# Altium footprint library USB-A-S-F-W-SM2.PcbLib: 1 footprints
Each footprint in its own frame and in the unit in brackets; x right, y up, seen from the top. Pads: shape width x height; smd on the part's side, far side on the other; paste and mask are expansions set on the pad; w line width, h text height; cw(c..) or ccw(c..) is an arc to the next point about the centre after c.
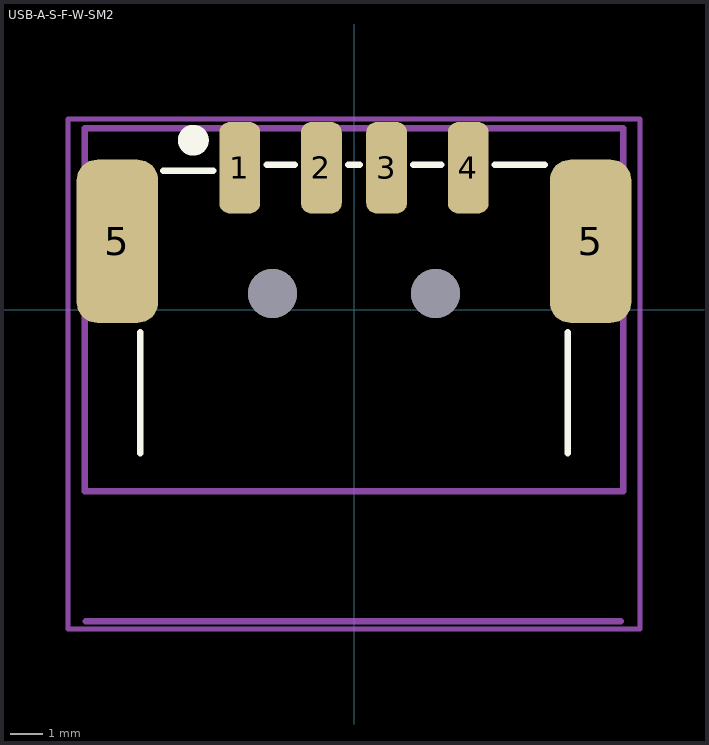
[diagram p0: the footprint, top view; thin cyan lines are the x and y axes]

## USB-A-S-F-W-SM2 [mm]
pads (6):
  rrect50% 1.25x2.8 smd mask+0: 1(-3.5,4.35) 4(3.5,4.35)
  rrect50% 1.25x2.8 smd mask+0.05: 2(-1,4.35) 3(1,4.35)
  rrect50% 2.5x5 smd mask+0: 5(-7.25,2.1) 5(7.25,2.1)
via 2.5,0.5 diameter 1.5 hole 1.5
via -2.5,0.5 diameter 1.5 hole 1.5
Top Overlay:
  circle w0.5: c-4.924,5.195 r0.224
  lines w0.2: -6.55,-4.395 -6.55,-0.695 ; -5.842,4.255 -4.32,4.255 ; -2.68,4.445 -1.82,4.445 ; -0.18,4.445 0.18,4.445 ; 1.82,4.445 2.68,4.445 ; 4.32,4.445 5.842,4.445 ; 6.55,-4.395 6.55,-0.695
Mechanical 2:
  lines w0.2: -8.225,-9.539 8.175,-9.539 ; -8.25,-5.555 -8.25,5.555 8.25,5.555 8.25,-5.555 -8.25,-5.555
  text "PCB Edge" at -2,-9.489 h1
Mechanical 4:
  lines w0.15: -8.763,-9.779 -8.763,5.842 -8.509,5.842 8.763,5.842 8.763,-9.779 -8.763,-9.779
3D body "USB-A-S-F-W-SM2.stp": height 7.8, standoff -1.1, extent -8.2,-9.55 8.2,5.45